# Altium integrated library TI Power Management Switching Regulator Charge Pump (Inductorless).IntLib: 239 symbols (part 10 of 14)
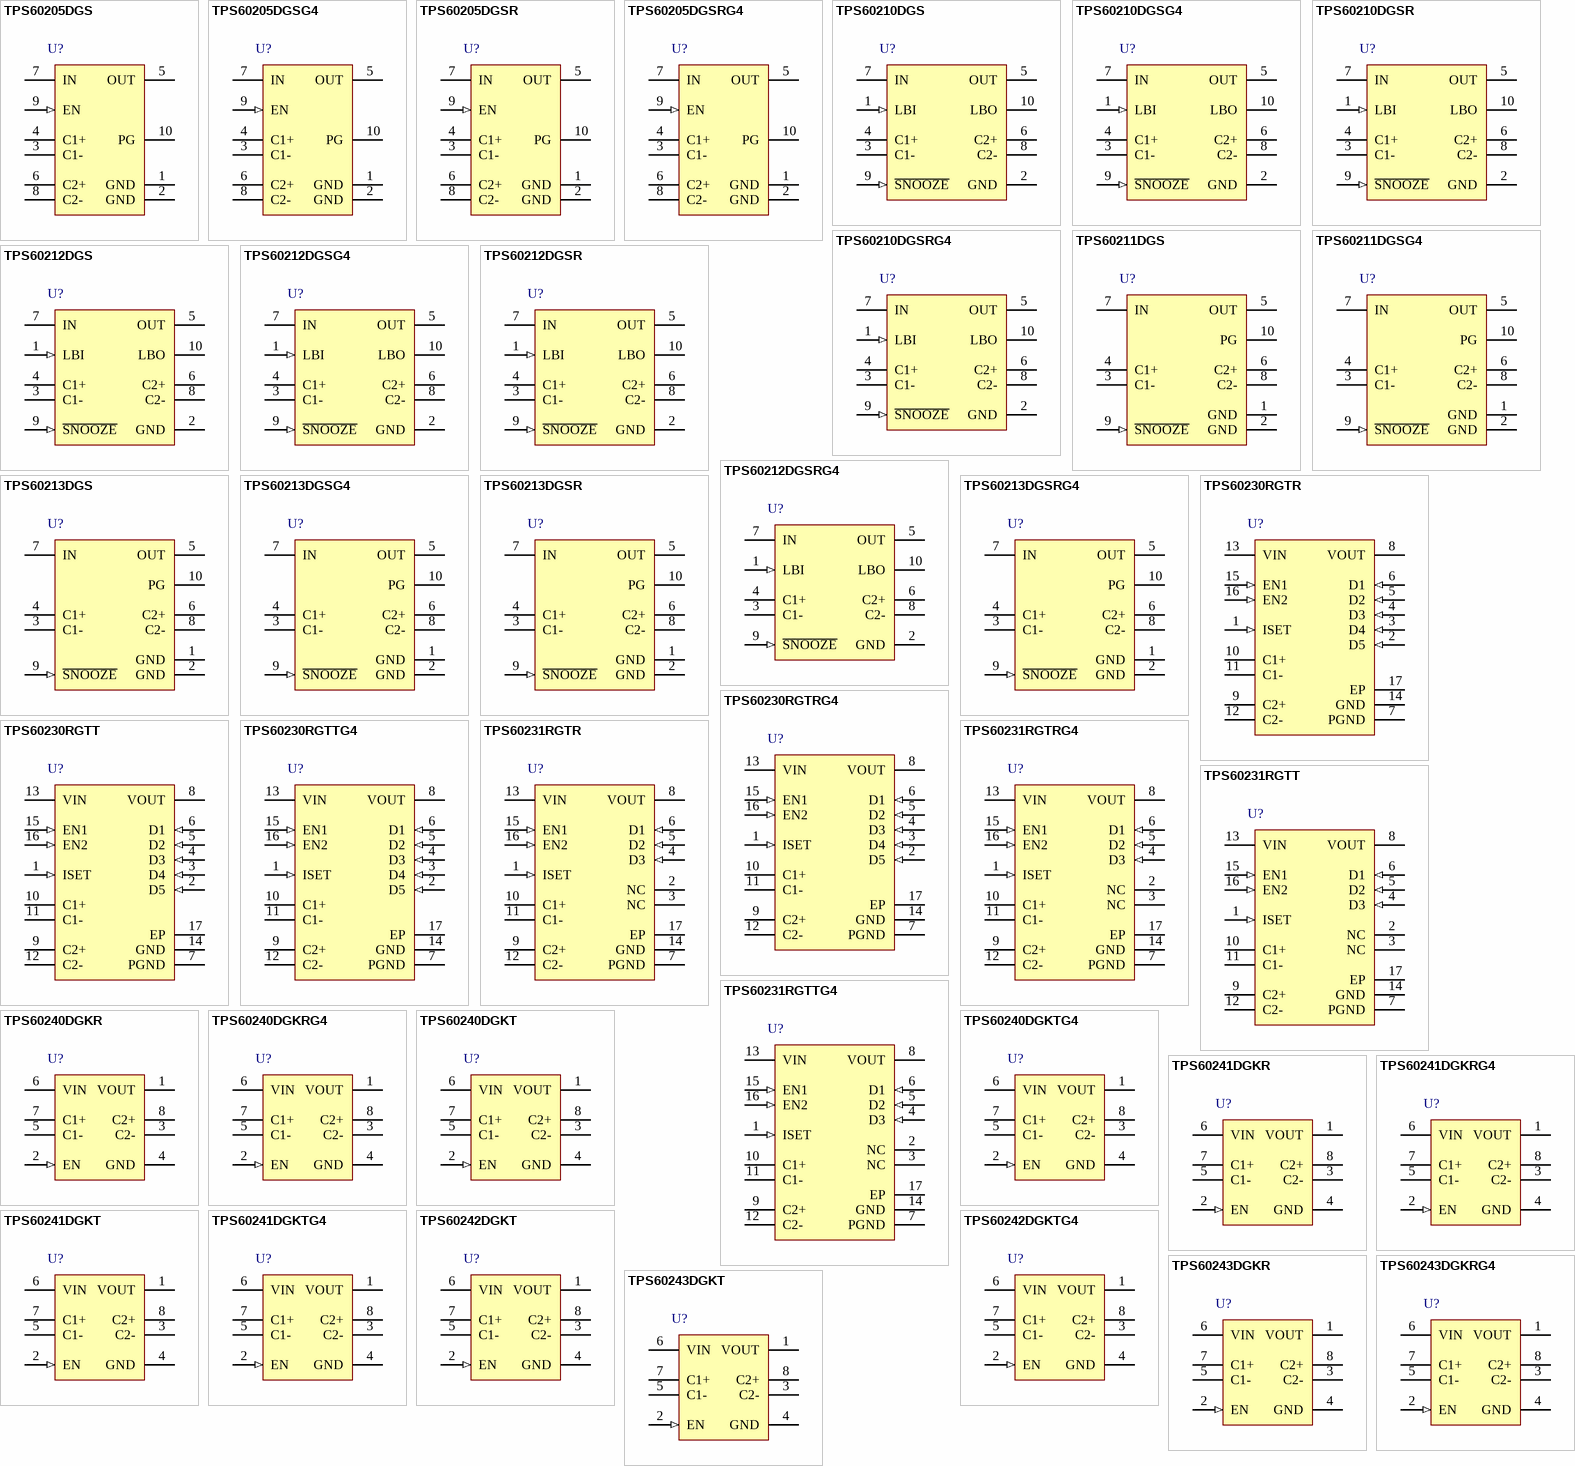
[diagram p16: symbols TPS60205DGS to TPS60243DGKT]

## TPS60230RGTT
designator U?
5.5 V, Backlight, 125 mA, 2.7 to 6.5 V Input, -40 to 85 degC, 16-pin QFN (RGT16), Green (RoHS & no Sb/Br); Manufacturer: Texas Instruments; PartNumber: TPS60230RGTT; Iout(Max)(A): 0.125; Iq(Typ)(mA): 0.2; Preset Vout(V): 5.5; Switching Frequency(Max)(kHz): 1250; Topology: Boost; Vin(Max)(V): 6.5; Vin(Min)(V): 2.7; DatasheetVersion: SLVS516A; PackageVersion: 4203495/H; PackageReference: RGT16-1450X1450TP; PackageDescription: 16-Pin Plastic Flat Pack, Body 3 x 3 mm, Pitch 0.5 mm; Supplier 1: Digi-Key; Supplier Part Number 1: 296-17136-2-ND; Supplier 2: Digi-Key; Supplier Part Number 2: 296-17136-1-ND; Supplier 3: Digi-Key; Supplier Part Number 3: 296-17136-6-ND; Supplier 4: Newark; Supplier Part Number 4: 21J9226; Supplier 5: Mouser; Supplier Part Number 5: 595-TPS60230RGTT; Eco-Plan: Green (RoHS & no Sb/Br); Mounting Technology: Surface Mount; Code_JEDEC: MO-220; ComponentLink1Description: Manufacturer URL; ComponentLink1URL: http://www.ti.com/; ComponentLink2Description: Datasheet; ComponentLink2URL: http://www.ti.com/general/docs/lit/getliterature.tsp?genericPartNumber=TPS60230&fileType=pdf; ComponentLink3Description: Package Specification; ComponentLink3URL: http://www.ti.com/litv/pdf/mpqf119g
footprint TI-RGT16-1450X1450TP_V (QFN, 16-Leads, Body 3x3mm, Pitch 0.5mm, Thermal Pad 1.45x1.45mm)
pins: 1 ISET (in) "Connect a resistor between this pin and GND to set the maximum current through the LEDs.", 2 D5 (in) "Current sink input. Connect the cathode of the white LEDs to these inputs.", 3 D4 (in) "Current sink input. Connect the cathode of the white LEDs to these inputs.", 4 D3 (in) "Current sink input. Connect the cathode of the white LEDs to these inputs.", 5 D2 (in) "Current sink input. Connect the cathode of the white LEDs to these inputs.", 6 D1 (in) "Current sink input. Connect the cathode of the white LEDs to these inputs.", 7 PGND (power) "Power ground, connect with analog ground (GND).", 8 VOUT (power) "Connect the output capacitor and the anode of the LEDs to this pin.", 9 C2+ "Connect to the flying capacitor C2", 10 C1+ "Connect to the flying capacitor C1", 11 C1- "Connect to the flying capacitor C1", 12 C2- "Connect to the flying capacitor C2", 13 VIN (power) "Supply voltage input.", 14 GND (power) "Analog ground", 15 EN1 (in) "Enable input. A logic high enables the converter, logic low forces the device into shutdown mode reducing the supply current to less than 1 uA if EN2 is tied to GND.", 16 EN2 (in) "An applied PWM signal reduces the LED current as a function of the duty cycle of the PWM signal. EN1 and EN2 can be tied together for PWM dimming between 0 mA and the maximum set with ISET. EN1 and EN2 can also be used for (See Datasheet)", 17 EP (power) "Connect with PGND and GND"

## TPS60230RGTTG4
designator U?
5.5 V, Backlight, 125 mA, 2.7 to 6.5 V Input, -40 to 85 degC, 16-pin QFN (RGT16), Green (RoHS & no Sb/Br); Manufacturer: Texas Instruments; PartNumber: TPS60230RGTTG4; Iout(Max)(A): 0.125; Iq(Typ)(mA): 0.2; Preset Vout(V): 5.5; Switching Frequency(Max)(kHz): 1250; Topology: Boost; Vin(Max)(V): 6.5; Vin(Min)(V): 2.7; DatasheetVersion: SLVS516A; PackageVersion: 4203495/H; PackageReference: RGT16-1450X1450TP; PackageDescription: 16-Pin Plastic Flat Pack, Body 3 x 3 mm, Pitch 0.5 mm; Supplier 1: Digi-Key; Supplier Part Number 1: TPS60230RGTTG4-ND; Supplier 2: Farnell; Supplier Part Number 2: 1226309; Supplier 3: Mouser; Supplier Part Number 3: 595-TPS60230RGTTG4; Eco-Plan: Green (RoHS & no Sb/Br); Mounting Technology: Surface Mount; Code_JEDEC: MO-220; ComponentLink1Description: Manufacturer URL; ComponentLink1URL: http://www.ti.com/; ComponentLink2Description: Datasheet; ComponentLink2URL: http://www.ti.com/general/docs/lit/getliterature.tsp?genericPartNumber=TPS60230&fileType=pdf; ComponentLink3Description: Package Specification; ComponentLink3URL: http://www.ti.com/litv/pdf/mpqf119g
footprint TI-RGT16-1450X1450TP_V (QFN, 16-Leads, Body 3x3mm, Pitch 0.5mm, Thermal Pad 1.45x1.45mm)
pins: 1 ISET (in) "Connect a resistor between this pin and GND to set the maximum current through the LEDs.", 2 D5 (in) "Current sink input. Connect the cathode of the white LEDs to these inputs.", 3 D4 (in) "Current sink input. Connect the cathode of the white LEDs to these inputs.", 4 D3 (in) "Current sink input. Connect the cathode of the white LEDs to these inputs.", 5 D2 (in) "Current sink input. Connect the cathode of the white LEDs to these inputs.", 6 D1 (in) "Current sink input. Connect the cathode of the white LEDs to these inputs.", 7 PGND (power) "Power ground, connect with analog ground (GND).", 8 VOUT (power) "Connect the output capacitor and the anode of the LEDs to this pin.", 9 C2+ "Connect to the flying capacitor C2", 10 C1+ "Connect to the flying capacitor C1", 11 C1- "Connect to the flying capacitor C1", 12 C2- "Connect to the flying capacitor C2", 13 VIN (power) "Supply voltage input.", 14 GND (power) "Analog ground", 15 EN1 (in) "Enable input. A logic high enables the converter, logic low forces the device into shutdown mode reducing the supply current to less than 1 uA if EN2 is tied to GND.", 16 EN2 (in) "An applied PWM signal reduces the LED current as a function of the duty cycle of the PWM signal. EN1 and EN2 can be tied together for PWM dimming between 0 mA and the maximum set with ISET. EN1 and EN2 can also be used for (See Datasheet)", 17 EP (power) "Connect with PGND and GND"

## TPS60231RGTR
designator U?
5.5 V, Step-Up Charge Pump Regulator, 75 mA, 2.7 to 6.5 V Input, -40 to 85 degC, 16-pin QFN (RGT16), Green (RoHS & no Sb/Br); Manufacturer: Texas Instruments; PartNumber: TPS60231RGTR; Efficiency(Typ)(%): 90; Iout(Max)(A): 0.075; Iq(Typ)(mA): 0.2; Preset Vout(V): 5.5; Switching Frequency(Max)(kHz): 1250; Topology: Boost; Vin(Max)(V): 6.5; Vin(Min)(V): 2.7; DatasheetVersion: SLVS544A; PackageVersion: 4203495/H; PackageReference: RGT16-1450X1450TP; PackageDescription: 16-Pin Plastic Flat Pack, Body 3 x 3 mm, Pitch 0.5 mm; Supplier 1: Digi-Key; Supplier Part Number 1: 296-17490-2-ND; Supplier 2: Digi-Key; Supplier Part Number 2: 296-17490-1-ND; Supplier 3: Digi-Key; Supplier Part Number 3: 296-17490-6-ND; Supplier 4: Newark; Supplier Part Number 4: 65J6900; Supplier 5: Mouser; Supplier Part Number 5: 595-TPS60231RGTR; Eco-Plan: Green (RoHS & no Sb/Br); Mounting Technology: Surface Mount; Code_JEDEC: MO-220; ComponentLink1Description: Manufacturer URL; ComponentLink1URL: http://www.ti.com/; ComponentLink2Description: Datasheet; ComponentLink2URL: http://www.ti.com/general/docs/lit/getliterature.tsp?genericPartNumber=TPS60231&fileType=pdf; ComponentLink3Description: Package Specification; ComponentLink3URL: http://www.ti.com/litv/pdf/mpqf119g
footprint TI-RGT16-1450X1450TP_V (QFN, 16-Leads, Body 3x3mm, Pitch 0.5mm, Thermal Pad 1.45x1.45mm)
pins: 1 ISET (in) "Connect a resistor between this pin and GND to set the maximum current through the LEDs.", 2 NC "No internal connection.", 3 NC "No internal connection.", 4 D3 (in) "Current sink input. Connect the cathode of the white LEDs to these inputs.", 5 D2 (in) "Current sink input. Connect the cathode of the white LEDs to these inputs.", 6 D1 (in) "Current sink input. Connect the cathode of the white LEDs to these inputs.", 7 PGND (power) "Power ground.", 8 VOUT (power) "Connect the output capacitor and the anode of the LEDs to this pin.", 9 C2+ "Connect to the flying capacitor C2", 10 C1+ "Connect to the flying capacitor C1", 11 C1- "Connect to the flying capacitor C1", 12 C2- "Connect to the flying capacitor C2", 13 VIN (power) "Supply voltage input", 14 GND (power) "Analog ground", 15 EN1 (in) "Enable input. A logic high enables the converter, logic low forces the device into shutdown mode reducing the supply current to less than 1 uA if EN2 is tied to GND.", 16 EN2 (in) "An applied PWM signal reduces the LED current as a function of the duty cycle of the PWM signal. EN1 and EN2 can be tied together for PWM dimming between 0 mA and the maximum set with ISET. EN1 and EN2 can also be used for (See Datasheet)", 17 EP (power) "Connect with PGND and GND."

## TPS60231RGTRG4
designator U?
5.5 V, Step-Up Charge Pump Regulator, 75 mA, 2.7 to 6.5 V Input, -40 to 85 degC, 16-pin QFN (RGT16), Green (RoHS & no Sb/Br); Manufacturer: Texas Instruments; PartNumber: TPS60231RGTRG4; Efficiency(Typ)(%): 90; Iout(Max)(A): 0.075; Iq(Typ)(mA): 0.2; Preset Vout(V): 5.5; Switching Frequency(Max)(kHz): 1250; Topology: Boost; Vin(Max)(V): 6.5; Vin(Min)(V): 2.7; DatasheetVersion: SLVS544A; PackageVersion: 4203495/H; PackageReference: RGT16-1450X1450TP; PackageDescription: 16-Pin Plastic Flat Pack, Body 3 x 3 mm, Pitch 0.5 mm; Supplier 1: Digi-Key; Supplier Part Number 1: TPS60231RGTRG4-ND; Supplier 2: Mouser; Supplier Part Number 2: 595-TPS60231RGTRG4; Eco-Plan: Green (RoHS & no Sb/Br); Mounting Technology: Surface Mount; Code_JEDEC: MO-220; ComponentLink1Description: Manufacturer URL; ComponentLink1URL: http://www.ti.com/; ComponentLink2Description: Datasheet; ComponentLink2URL: http://www.ti.com/general/docs/lit/getliterature.tsp?genericPartNumber=TPS60231&fileType=pdf; ComponentLink3Description: Package Specification; ComponentLink3URL: http://www.ti.com/litv/pdf/mpqf119g
footprint TI-RGT16-1450X1450TP_V (QFN, 16-Leads, Body 3x3mm, Pitch 0.5mm, Thermal Pad 1.45x1.45mm)
pins: 1 ISET (in) "Connect a resistor between this pin and GND to set the maximum current through the LEDs.", 2 NC "No internal connection.", 3 NC "No internal connection.", 4 D3 (in) "Current sink input. Connect the cathode of the white LEDs to these inputs.", 5 D2 (in) "Current sink input. Connect the cathode of the white LEDs to these inputs.", 6 D1 (in) "Current sink input. Connect the cathode of the white LEDs to these inputs.", 7 PGND (power) "Power ground.", 8 VOUT (power) "Connect the output capacitor and the anode of the LEDs to this pin.", 9 C2+ "Connect to the flying capacitor C2", 10 C1+ "Connect to the flying capacitor C1", 11 C1- "Connect to the flying capacitor C1", 12 C2- "Connect to the flying capacitor C2", 13 VIN (power) "Supply voltage input", 14 GND (power) "Analog ground", 15 EN1 (in) "Enable input. A logic high enables the converter, logic low forces the device into shutdown mode reducing the supply current to less than 1 uA if EN2 is tied to GND.", 16 EN2 (in) "An applied PWM signal reduces the LED current as a function of the duty cycle of the PWM signal. EN1 and EN2 can be tied together for PWM dimming between 0 mA and the maximum set with ISET. EN1 and EN2 can also be used for (See Datasheet)", 17 EP (power) "Connect with PGND and GND."

## TPS60231RGTT
designator U?
5.5 V, Step-Up Charge Pump Regulator, 75 mA, 2.7 to 6.5 V Input, -40 to 85 degC, 16-pin QFN (RGT16), Green (RoHS & no Sb/Br); Manufacturer: Texas Instruments; PartNumber: TPS60231RGTT; Efficiency(Typ)(%): 90; Iout(Max)(A): 0.075; Iq(Typ)(mA): 0.2; Preset Vout(V): 5.5; Switching Frequency(Max)(kHz): 1250; Topology: Boost; Vin(Max)(V): 6.5; Vin(Min)(V): 2.7; DatasheetVersion: SLVS544A; PackageVersion: 4203495/H; PackageReference: RGT16-1450X1450TP; PackageDescription: 16-Pin Plastic Flat Pack, Body 3 x 3 mm, Pitch 0.5 mm; Supplier 1: Digi-Key; Supplier Part Number 1: TPS60231RGTT-ND; Supplier 2: Newark; Supplier Part Number 2: 65J6901; Supplier 3: Mouser; Supplier Part Number 3: 595-TPS60231RGTT; Eco-Plan: Green (RoHS & no Sb/Br); Mounting Technology: Surface Mount; Code_JEDEC: MO-220; ComponentLink1Description: Manufacturer URL; ComponentLink1URL: http://www.ti.com/; ComponentLink2Description: Datasheet; ComponentLink2URL: http://www.ti.com/general/docs/lit/getliterature.tsp?genericPartNumber=TPS60231&fileType=pdf; ComponentLink3Description: Package Specification; ComponentLink3URL: http://www.ti.com/litv/pdf/mpqf119g
footprint TI-RGT16-1450X1450TP_V (QFN, 16-Leads, Body 3x3mm, Pitch 0.5mm, Thermal Pad 1.45x1.45mm)
pins: 1 ISET (in) "Connect a resistor between this pin and GND to set the maximum current through the LEDs.", 2 NC "No internal connection.", 3 NC "No internal connection.", 4 D3 (in) "Current sink input. Connect the cathode of the white LEDs to these inputs.", 5 D2 (in) "Current sink input. Connect the cathode of the white LEDs to these inputs.", 6 D1 (in) "Current sink input. Connect the cathode of the white LEDs to these inputs.", 7 PGND (power) "Power ground.", 8 VOUT (power) "Connect the output capacitor and the anode of the LEDs to this pin.", 9 C2+ "Connect to the flying capacitor C2", 10 C1+ "Connect to the flying capacitor C1", 11 C1- "Connect to the flying capacitor C1", 12 C2- "Connect to the flying capacitor C2", 13 VIN (power) "Supply voltage input", 14 GND (power) "Analog ground", 15 EN1 (in) "Enable input. A logic high enables the converter, logic low forces the device into shutdown mode reducing the supply current to less than 1 uA if EN2 is tied to GND.", 16 EN2 (in) "An applied PWM signal reduces the LED current as a function of the duty cycle of the PWM signal. EN1 and EN2 can be tied together for PWM dimming between 0 mA and the maximum set with ISET. EN1 and EN2 can also be used for (See Datasheet)", 17 EP (power) "Connect with PGND and GND."

## TPS60231RGTTG4
designator U?
5.5 V, Step-Up Charge Pump Regulator, 75 mA, 2.7 to 6.5 V Input, -40 to 85 degC, 16-pin QFN (RGT16), Green (RoHS & no Sb/Br); Manufacturer: Texas Instruments; PartNumber: TPS60231RGTTG4; Efficiency(Typ)(%): 90; Iout(Max)(A): 0.075; Iq(Typ)(mA): 0.2; Preset Vout(V): 5.5; Switching Frequency(Max)(kHz): 1250; Topology: Boost; Vin(Max)(V): 6.5; Vin(Min)(V): 2.7; DatasheetVersion: SLVS544A; PackageVersion: 4203495/H; PackageReference: RGT16-1450X1450TP; PackageDescription: 16-Pin Plastic Flat Pack, Body 3 x 3 mm, Pitch 0.5 mm; Supplier 1: Digi-Key; Supplier Part Number 1: TPS60231RGTTG4-ND; Supplier 2: Farnell; Supplier Part Number 2: 1226310RL; Supplier 3: Farnell; Supplier Part Number 3: 1226310; Supplier 4: Newark; Supplier Part Number 4: 05M1622; Supplier 5: Mouser; Supplier Part Number 5: 595-TPS60231RGTTG4; Eco-Plan: Green (RoHS & no Sb/Br); Mounting Technology: Surface Mount; Code_JEDEC: MO-220; ComponentLink1Description: Manufacturer URL; ComponentLink1URL: http://www.ti.com/; ComponentLink2Description: Datasheet; ComponentLink2URL: http://www.ti.com/general/docs/lit/getliterature.tsp?genericPartNumber=TPS60231&fileType=pdf; ComponentLink3Description: Package Specification; ComponentLink3URL: http://www.ti.com/litv/pdf/mpqf119g
footprint TI-RGT16-1450X1450TP_V (QFN, 16-Leads, Body 3x3mm, Pitch 0.5mm, Thermal Pad 1.45x1.45mm)
pins: 1 ISET (in) "Connect a resistor between this pin and GND to set the maximum current through the LEDs.", 2 NC "No internal connection.", 3 NC "No internal connection.", 4 D3 (in) "Current sink input. Connect the cathode of the white LEDs to these inputs.", 5 D2 (in) "Current sink input. Connect the cathode of the white LEDs to these inputs.", 6 D1 (in) "Current sink input. Connect the cathode of the white LEDs to these inputs.", 7 PGND (power) "Power ground.", 8 VOUT (power) "Connect the output capacitor and the anode of the LEDs to this pin.", 9 C2+ "Connect to the flying capacitor C2", 10 C1+ "Connect to the flying capacitor C1", 11 C1- "Connect to the flying capacitor C1", 12 C2- "Connect to the flying capacitor C2", 13 VIN (power) "Supply voltage input", 14 GND (power) "Analog ground", 15 EN1 (in) "Enable input. A logic high enables the converter, logic low forces the device into shutdown mode reducing the supply current to less than 1 uA if EN2 is tied to GND.", 16 EN2 (in) "An applied PWM signal reduces the LED current as a function of the duty cycle of the PWM signal. EN1 and EN2 can be tied together for PWM dimming between 0 mA and the maximum set with ISET. EN1 and EN2 can also be used for (See Datasheet)", 17 EP (power) "Connect with PGND and GND."

## TPS60240DGKR
designator U?
3.3 V, Boost Charge Pump, 25 mA, 1.8 to 5.5 V Input with 2-Cell Alkaline / Nixx Input, -40 to 85 degC, 8-pin SOP (DGK8), Green (RoHS & no Sb/Br); Manufacturer: Texas Instruments; PartNumber: TPS60240DGKR; 2-Cell Alkaline/Nixx Input: TRUE; Efficiency(Typ)(%): 89.6; Iout(Max)(A): 0.025; Iq(Typ)(mA): 0.25; Preset Vout(V): 3.3; Switching Frequency(Max)(kHz): 220; Vin(Max)(V): 5.5; Vin(Min)(V): 1.8; Vout(Max)(V): 3.3825; Vout(Min)(V): 3.2175; DatasheetVersion: SLVS372B; PackageVersion: 4073329/E; PackageReference: DGK8; PackageDescription: 8-Pin Thin Small Outline Package 3 x 3 mm Body ,0.65 mm Pitch; Supplier 1: Digi-Key; Supplier Part Number 1: 296-12510-2-ND; Supplier 2: Digi-Key; Supplier Part Number 2: 296-12510-1-ND; Supplier 3: Digi-Key; Supplier Part Number 3: 296-12510-6-ND; Supplier 4: Newark; Supplier Part Number 4: 77C0599; Supplier 5: Mouser; Supplier Part Number 5: 595-TPS60240DGKR; Eco-Plan: Green (RoHS & no Sb/Br); Topology: Boost; Mounting Technology: Surface Mount; Code_JEDEC: MO-187; ComponentLink1Description: Manufacturer URL; ComponentLink1URL: http://www.ti.com/; ComponentLink2Description: Datasheet; ComponentLink2URL: http://www.ti.com/general/docs/lit/getliterature.tsp?genericPartNumber=TPS60240&fileType=pdf; ComponentLink3Description: Package Specification; ComponentLink3URL: http://www.ti.com/litv/pdf/mpds028d
footprint TI-DGK8_N (SOP, 8-Leads, Body 3x3mm, Pitch 0.65mm, IPC Medium Density)
footprint TI-DGK8_L (SOP, 8-Leads, Body 3x3mm, Pitch 0.65mm, IPC High Density)
footprint TI-DGK8_M (SOP, 8-Leads, Body 3x3mm, Pitch 0.65mm, IPC Low Density)
pins: 1 VOUT (power) "Regulated power output. Bypass VOUT to GND with a 1-uF external filter capacitor (CO). TPS60241: regulated 5-V output, TPS60240: regulated 3.3-V output, TPS60242: regulated 2.7-V output, TPS60243: regulated 3-V output", 2 EN (in) "Enable terminal, active high", 3 C2- "Negative terminal of the flying capacitor C2", 4 GND (power) "Ground", 5 C1- "Negative terminal of the flying capacitor C1", 6 VIN (power) "Supply voltage input TPS60241: 2.7 V to 5.5 V, TPS60240/2/3: 1.8 V to 5.5 V. Bypass VIN to GND with a 1-uF external capacitor (CI).", 7 C1+ "Positive terminal of the flying capacitor C1", 8 C2+ "Positive terminal of the flying capacitor C2"

## TPS60240DGKRG4
designator U?
3.3 V, Boost Charge Pump, 25 mA, 1.8 to 5.5 V Input with 2-Cell Alkaline / Nixx Input, -40 to 85 degC, 8-pin SOP (DGK8), Green (RoHS & no Sb/Br); Manufacturer: Texas Instruments; PartNumber: TPS60240DGKRG4; 2-Cell Alkaline/Nixx Input: TRUE; Efficiency(Typ)(%): 89.6; Iout(Max)(A): 0.025; Iq(Typ)(mA): 0.25; Preset Vout(V): 3.3; Switching Frequency(Max)(kHz): 220; Vin(Max)(V): 5.5; Vin(Min)(V): 1.8; Vout(Max)(V): 3.3825; Vout(Min)(V): 3.2175; DatasheetVersion: SLVS372B; PackageVersion: 4073329/E; PackageReference: DGK8; PackageDescription: 8-Pin Thin Small Outline Package 3 x 3 mm Body ,0.65 mm Pitch; Supplier 1: Digi-Key; Supplier Part Number 1: TPS60240DGKRG4-ND; Supplier 2: Newark; Supplier Part Number 2: 60M1799; Supplier 3: Mouser; Supplier Part Number 3: 595-TPS60240DGKRG4; Eco-Plan: Green (RoHS & no Sb/Br); Topology: Boost; Mounting Technology: Surface Mount; Code_JEDEC: MO-187; ComponentLink1Description: Manufacturer URL; ComponentLink1URL: http://www.ti.com/; ComponentLink2Description: Datasheet; ComponentLink2URL: http://www.ti.com/general/docs/lit/getliterature.tsp?genericPartNumber=TPS60240&fileType=pdf; ComponentLink3Description: Package Specification; ComponentLink3URL: http://www.ti.com/litv/pdf/mpds028d
footprint TI-DGK8_N (SOP, 8-Leads, Body 3x3mm, Pitch 0.65mm, IPC Medium Density)
footprint TI-DGK8_L (SOP, 8-Leads, Body 3x3mm, Pitch 0.65mm, IPC High Density)
footprint TI-DGK8_M (SOP, 8-Leads, Body 3x3mm, Pitch 0.65mm, IPC Low Density)
pins: 1 VOUT (power) "Regulated power output. Bypass VOUT to GND with a 1-uF external filter capacitor (CO). TPS60241: regulated 5-V output, TPS60240: regulated 3.3-V output, TPS60242: regulated 2.7-V output, TPS60243: regulated 3-V output", 2 EN (in) "Enable terminal, active high", 3 C2- "Negative terminal of the flying capacitor C2", 4 GND (power) "Ground", 5 C1- "Negative terminal of the flying capacitor C1", 6 VIN (power) "Supply voltage input TPS60241: 2.7 V to 5.5 V, TPS60240/2/3: 1.8 V to 5.5 V. Bypass VIN to GND with a 1-uF external capacitor (CI).", 7 C1+ "Positive terminal of the flying capacitor C1", 8 C2+ "Positive terminal of the flying capacitor C2"

## TPS60240DGKT
designator U?
3.3 V, Boost Charge Pump, 25 mA, 1.8 to 5.5 V Input with 2-Cell Alkaline / Nixx Input, -40 to 85 degC, 8-pin SOP (DGK8), Green (RoHS & no Sb/Br); Manufacturer: Texas Instruments; PartNumber: TPS60240DGKT; 2-Cell Alkaline/Nixx Input: TRUE; Efficiency(Typ)(%): 89.6; Iout(Max)(A): 0.025; Iq(Typ)(mA): 0.25; Preset Vout(V): 3.3; Switching Frequency(Max)(kHz): 220; Vin(Max)(V): 5.5; Vin(Min)(V): 1.8; Vout(Max)(V): 3.3825; Vout(Min)(V): 3.2175; DatasheetVersion: SLVS372B; PackageVersion: 4073329/E; PackageReference: DGK8; PackageDescription: 8-Pin Thin Small Outline Package 3 x 3 mm Body ,0.65 mm Pitch; Supplier 1: Digi-Key; Supplier Part Number 1: 296-32496-2-ND; Supplier 2: Digi-Key; Supplier Part Number 2: 296-32496-1-ND; Supplier 3: Digi-Key; Supplier Part Number 3: 296-32496-6-ND; Supplier 4: Mouser; Supplier Part Number 4: 595-TPS60240DGKT; Eco-Plan: Green (RoHS & no Sb/Br); Topology: Boost; Mounting Technology: Surface Mount; Code_JEDEC: MO-187; ComponentLink1Description: Manufacturer URL; ComponentLink1URL: http://www.ti.com/; ComponentLink2Description: Datasheet; ComponentLink2URL: http://www.ti.com/general/docs/lit/getliterature.tsp?genericPartNumber=TPS60240&fileType=pdf; ComponentLink3Description: Package Specification; ComponentLink3URL: http://www.ti.com/litv/pdf/mpds028d
footprint TI-DGK8_N (SOP, 8-Leads, Body 3x3mm, Pitch 0.65mm, IPC Medium Density)
footprint TI-DGK8_L (SOP, 8-Leads, Body 3x3mm, Pitch 0.65mm, IPC High Density)
footprint TI-DGK8_M (SOP, 8-Leads, Body 3x3mm, Pitch 0.65mm, IPC Low Density)
pins: 1 VOUT (power) "Regulated power output. Bypass VOUT to GND with a 1-uF external filter capacitor (CO). TPS60241: regulated 5-V output, TPS60240: regulated 3.3-V output, TPS60242: regulated 2.7-V output, TPS60243: regulated 3-V output", 2 EN (in) "Enable terminal, active high", 3 C2- "Negative terminal of the flying capacitor C2", 4 GND (power) "Ground", 5 C1- "Negative terminal of the flying capacitor C1", 6 VIN (power) "Supply voltage input TPS60241: 2.7 V to 5.5 V, TPS60240/2/3: 1.8 V to 5.5 V. Bypass VIN to GND with a 1-uF external capacitor (CI).", 7 C1+ "Positive terminal of the flying capacitor C1", 8 C2+ "Positive terminal of the flying capacitor C2"

## TPS60240DGKTG4
designator U?
3.3 V, Boost Charge Pump, 25 mA, 1.8 to 5.5 V Input with 2-Cell Alkaline / Nixx Input, -40 to 85 degC, 8-pin SOP (DGK8), Green (RoHS & no Sb/Br); Manufacturer: Texas Instruments; PartNumber: TPS60240DGKTG4; 2-Cell Alkaline/Nixx Input: TRUE; Efficiency(Typ)(%): 89.6; Iout(Max)(A): 0.025; Iq(Typ)(mA): 0.25; Preset Vout(V): 3.3; Switching Frequency(Max)(kHz): 220; Vin(Max)(V): 5.5; Vin(Min)(V): 1.8; Vout(Max)(V): 3.3825; Vout(Min)(V): 3.2175; DatasheetVersion: SLVS372B; PackageVersion: 4073329/E; PackageReference: DGK8; PackageDescription: 8-Pin Thin Small Outline Package 3 x 3 mm Body ,0.65 mm Pitch; Supplier 1: Digi-Key; Supplier Part Number 1: TPS60240DGKTG4-ND; Supplier 2: Mouser; Supplier Part Number 2: 595-TPS60240DGKTG4; Eco-Plan: Green (RoHS & no Sb/Br); Topology: Boost; Mounting Technology: Surface Mount; Code_JEDEC: MO-187; ComponentLink1Description: Manufacturer URL; ComponentLink1URL: http://www.ti.com/; ComponentLink2Description: Datasheet; ComponentLink2URL: http://www.ti.com/general/docs/lit/getliterature.tsp?genericPartNumber=TPS60240&fileType=pdf; ComponentLink3Description: Package Specification; ComponentLink3URL: http://www.ti.com/litv/pdf/mpds028d
footprint TI-DGK8_N (SOP, 8-Leads, Body 3x3mm, Pitch 0.65mm, IPC Medium Density)
footprint TI-DGK8_L (SOP, 8-Leads, Body 3x3mm, Pitch 0.65mm, IPC High Density)
footprint TI-DGK8_M (SOP, 8-Leads, Body 3x3mm, Pitch 0.65mm, IPC Low Density)
pins: 1 VOUT (power) "Regulated power output. Bypass VOUT to GND with a 1-uF external filter capacitor (CO). TPS60241: regulated 5-V output, TPS60240: regulated 3.3-V output, TPS60242: regulated 2.7-V output, TPS60243: regulated 3-V output", 2 EN (in) "Enable terminal, active high", 3 C2- "Negative terminal of the flying capacitor C2", 4 GND (power) "Ground", 5 C1- "Negative terminal of the flying capacitor C1", 6 VIN (power) "Supply voltage input TPS60241: 2.7 V to 5.5 V, TPS60240/2/3: 1.8 V to 5.5 V. Bypass VIN to GND with a 1-uF external capacitor (CI).", 7 C1+ "Positive terminal of the flying capacitor C1", 8 C2+ "Positive terminal of the flying capacitor C2"

## TPS60241DGKR
designator U?
5 V, Boost Charge Pump, 25 mA, 2.7 to 5.5 V Input with 2-Cell Alkaline / Nixx Input, -40 to 85 degC, 8-pin SOP (DGK8), Green (RoHS & no Sb/Br); Manufacturer: Texas Instruments; PartNumber: TPS60241DGKR; 2-Cell Alkaline/Nixx Input: TRUE; Efficiency(Typ)(%): 90.8; Iout(Max)(A): 0.025; Iq(Typ)(mA): 0.25; Preset Vout(V): 5; Switching Frequency(Max)(kHz): 220; Vin(Max)(V): 5.5; Vin(Min)(V): 2.7; Vout(Max)(V): 5.125; Vout(Min)(V): 4.875; DatasheetVersion: SLVS372B; PackageVersion: 4073329/E; PackageReference: DGK8; PackageDescription: 8-Pin Thin Small Outline Package 3 x 3 mm Body ,0.65 mm Pitch; Supplier 1: Digi-Key; Supplier Part Number 1: 296-12241-2-ND; Supplier 2: Digi-Key; Supplier Part Number 2: 296-12241-1-ND; Supplier 3: Digi-Key; Supplier Part Number 3: 296-12241-6-ND; Supplier 4: Newark; Supplier Part Number 4: 77C0601; Supplier 5: Mouser; Supplier Part Number 5: 595-TPS60241DGKR; Eco-Plan: Green (RoHS & no Sb/Br); Topology: Boost; Mounting Technology: Surface Mount; Code_JEDEC: MO-187; ComponentLink1Description: Manufacturer URL; ComponentLink1URL: http://www.ti.com/; ComponentLink2Description: Datasheet; ComponentLink2URL: http://www.ti.com/general/docs/lit/getliterature.tsp?genericPartNumber=TPS60241&fileType=pdf; ComponentLink3Description: Package Specification; ComponentLink3URL: http://www.ti.com/litv/pdf/mpds028d
footprint TI-DGK8_N (SOP, 8-Leads, Body 3x3mm, Pitch 0.65mm, IPC Medium Density)
footprint TI-DGK8_L (SOP, 8-Leads, Body 3x3mm, Pitch 0.65mm, IPC High Density)
footprint TI-DGK8_M (SOP, 8-Leads, Body 3x3mm, Pitch 0.65mm, IPC Low Density)
pins: 1 VOUT (power) "Regulated power output. Bypass VOUT to GND with a 1-uF external filter capacitor (CO). TPS60241: regulated 5-V output, TPS60240: regulated 3.3-V output, TPS60242: regulated 2.7-V output, TPS60243: regulated 3-V output", 2 EN (in) "Enable terminal, active high", 3 C2- "Negative terminal of the flying capacitor C2", 4 GND (power) "Ground", 5 C1- "Negative terminal of the flying capacitor C1", 6 VIN (power) "Supply voltage input TPS60241: 2.7 V to 5.5 V, TPS60240/2/3: 1.8 V to 5.5 V. Bypass VIN to GND with a 1-uF external capacitor (CI).", 7 C1+ "Positive terminal of the flying capacitor C1", 8 C2+ "Positive terminal of the flying capacitor C2"

## TPS60241DGKRG4
designator U?
5 V, Boost Charge Pump, 25 mA, 2.7 to 5.5 V Input with 2-Cell Alkaline / Nixx Input, -40 to 85 degC, 8-pin SOP (DGK8), Green (RoHS & no Sb/Br); Manufacturer: Texas Instruments; PartNumber: TPS60241DGKRG4; 2-Cell Alkaline/Nixx Input: TRUE; Efficiency(Typ)(%): 90.8; Iout(Max)(A): 0.025; Iq(Typ)(mA): 0.25; Preset Vout(V): 5; Switching Frequency(Max)(kHz): 220; Vin(Max)(V): 5.5; Vin(Min)(V): 2.7; Vout(Max)(V): 5.125; Vout(Min)(V): 4.875; DatasheetVersion: SLVS372B; PackageVersion: 4073329/E; PackageReference: DGK8; PackageDescription: 8-Pin Thin Small Outline Package 3 x 3 mm Body ,0.65 mm Pitch; Supplier 1: Digi-Key; Supplier Part Number 1: TPS60241DGKRG4-ND; Supplier 2: Newark; Supplier Part Number 2: 80K3406; Supplier 3: Mouser; Supplier Part Number 3: 595-TPS60241DGKRG4; Eco-Plan: Green (RoHS & no Sb/Br); Topology: Boost; Mounting Technology: Surface Mount; Code_JEDEC: MO-187; ComponentLink1Description: Manufacturer URL; ComponentLink1URL: http://www.ti.com/; ComponentLink2Description: Datasheet; ComponentLink2URL: http://www.ti.com/general/docs/lit/getliterature.tsp?genericPartNumber=TPS60241&fileType=pdf; ComponentLink3Description: Package Specification; ComponentLink3URL: http://www.ti.com/litv/pdf/mpds028d
footprint TI-DGK8_N (SOP, 8-Leads, Body 3x3mm, Pitch 0.65mm, IPC Medium Density)
footprint TI-DGK8_L (SOP, 8-Leads, Body 3x3mm, Pitch 0.65mm, IPC High Density)
footprint TI-DGK8_M (SOP, 8-Leads, Body 3x3mm, Pitch 0.65mm, IPC Low Density)
pins: 1 VOUT (power) "Regulated power output. Bypass VOUT to GND with a 1-uF external filter capacitor (CO). TPS60241: regulated 5-V output, TPS60240: regulated 3.3-V output, TPS60242: regulated 2.7-V output, TPS60243: regulated 3-V output", 2 EN (in) "Enable terminal, active high", 3 C2- "Negative terminal of the flying capacitor C2", 4 GND (power) "Ground", 5 C1- "Negative terminal of the flying capacitor C1", 6 VIN (power) "Supply voltage input TPS60241: 2.7 V to 5.5 V, TPS60240/2/3: 1.8 V to 5.5 V. Bypass VIN to GND with a 1-uF external capacitor (CI).", 7 C1+ "Positive terminal of the flying capacitor C1", 8 C2+ "Positive terminal of the flying capacitor C2"

## TPS60241DGKT
designator U?
5 V, Boost Charge Pump, 25 mA, 2.7 to 5.5 V Input with 2-Cell Alkaline / Nixx Input, -40 to 85 degC, 8-pin SOP (DGK8), Green (RoHS & no Sb/Br); Manufacturer: Texas Instruments; PartNumber: TPS60241DGKT; 2-Cell Alkaline/Nixx Input: TRUE; Efficiency(Typ)(%): 90.8; Iout(Max)(A): 0.025; Iq(Typ)(mA): 0.25; Preset Vout(V): 5; Switching Frequency(Max)(kHz): 220; Vin(Max)(V): 5.5; Vin(Min)(V): 2.7; Vout(Max)(V): 5.125; Vout(Min)(V): 4.875; DatasheetVersion: SLVS372B; PackageVersion: 4073329/E; PackageReference: DGK8; PackageDescription: 8-Pin Thin Small Outline Package 3 x 3 mm Body ,0.65 mm Pitch; Supplier 1: Digi-Key; Supplier Part Number 1: 296-27755-2-ND; Supplier 2: Digi-Key; Supplier Part Number 2: 296-27755-1-ND; Supplier 3: Digi-Key; Supplier Part Number 3: 296-27755-6-ND; Supplier 4: Farnell; Supplier Part Number 4: 1461058; Supplier 5: Farnell; Supplier Part Number 5: 1461058RL; Supplier 6: Newark; Supplier Part Number 6: 62M0733; Supplier 7: Newark; Supplier Part Number 7: 77C0602; Supplier 8: Mouser; Supplier Part Number 8: 595-TPS60241DGKT; Eco-Plan: Green (RoHS & no Sb/Br); Topology: Boost; Mounting Technology: Surface Mount; Code_JEDEC: MO-187; ComponentLink1Description: Manufacturer URL; ComponentLink1URL: http://www.ti.com/; ComponentLink2Description: Datasheet; ComponentLink2URL: http://www.ti.com/general/docs/lit/getliterature.tsp?genericPartNumber=TPS60241&fileType=pdf; ComponentLink3Description: Package Specification; ComponentLink3URL: http://www.ti.com/litv/pdf/mpds028d
footprint TI-DGK8_N (SOP, 8-Leads, Body 3x3mm, Pitch 0.65mm, IPC Medium Density)
footprint TI-DGK8_L (SOP, 8-Leads, Body 3x3mm, Pitch 0.65mm, IPC High Density)
footprint TI-DGK8_M (SOP, 8-Leads, Body 3x3mm, Pitch 0.65mm, IPC Low Density)
pins: 1 VOUT (power) "Regulated power output. Bypass VOUT to GND with a 1-uF external filter capacitor (CO). TPS60241: regulated 5-V output, TPS60240: regulated 3.3-V output, TPS60242: regulated 2.7-V output, TPS60243: regulated 3-V output", 2 EN (in) "Enable terminal, active high", 3 C2- "Negative terminal of the flying capacitor C2", 4 GND (power) "Ground", 5 C1- "Negative terminal of the flying capacitor C1", 6 VIN (power) "Supply voltage input TPS60241: 2.7 V to 5.5 V, TPS60240/2/3: 1.8 V to 5.5 V. Bypass VIN to GND with a 1-uF external capacitor (CI).", 7 C1+ "Positive terminal of the flying capacitor C1", 8 C2+ "Positive terminal of the flying capacitor C2"

## TPS60241DGKTG4
designator U?
5 V, Boost Charge Pump, 25 mA, 2.7 to 5.5 V Input with 2-Cell Alkaline / Nixx Input, -40 to 85 degC, 8-pin SOP (DGK8), Green (RoHS & no Sb/Br); Manufacturer: Texas Instruments; PartNumber: TPS60241DGKTG4; 2-Cell Alkaline/Nixx Input: TRUE; Efficiency(Typ)(%): 90.8; Iout(Max)(A): 0.025; Iq(Typ)(mA): 0.25; Preset Vout(V): 5; Switching Frequency(Max)(kHz): 220; Vin(Max)(V): 5.5; Vin(Min)(V): 2.7; Vout(Max)(V): 5.125; Vout(Min)(V): 4.875; DatasheetVersion: SLVS372B; PackageVersion: 4073329/E; PackageReference: DGK8; PackageDescription: 8-Pin Thin Small Outline Package 3 x 3 mm Body ,0.65 mm Pitch; Supplier 1: Digi-Key; Supplier Part Number 1: TPS60241DGKTG4-ND; Supplier 2: Newark; Supplier Part Number 2: 70K5746; Supplier 3: Mouser; Supplier Part Number 3: 595-TPS60241DGKTG4; Eco-Plan: Green (RoHS & no Sb/Br); Topology: Boost; Mounting Technology: Surface Mount; Code_JEDEC: MO-187; ComponentLink1Description: Manufacturer URL; ComponentLink1URL: http://www.ti.com/; ComponentLink2Description: Datasheet; ComponentLink2URL: http://www.ti.com/general/docs/lit/getliterature.tsp?genericPartNumber=TPS60241&fileType=pdf; ComponentLink3Description: Package Specification; ComponentLink3URL: http://www.ti.com/litv/pdf/mpds028d
footprint TI-DGK8_N (SOP, 8-Leads, Body 3x3mm, Pitch 0.65mm, IPC Medium Density)
footprint TI-DGK8_L (SOP, 8-Leads, Body 3x3mm, Pitch 0.65mm, IPC High Density)
footprint TI-DGK8_M (SOP, 8-Leads, Body 3x3mm, Pitch 0.65mm, IPC Low Density)
pins: 1 VOUT (power) "Regulated power output. Bypass VOUT to GND with a 1-uF external filter capacitor (CO). TPS60241: regulated 5-V output, TPS60240: regulated 3.3-V output, TPS60242: regulated 2.7-V output, TPS60243: regulated 3-V output", 2 EN (in) "Enable terminal, active high", 3 C2- "Negative terminal of the flying capacitor C2", 4 GND (power) "Ground", 5 C1- "Negative terminal of the flying capacitor C1", 6 VIN (power) "Supply voltage input TPS60241: 2.7 V to 5.5 V, TPS60240/2/3: 1.8 V to 5.5 V. Bypass VIN to GND with a 1-uF external capacitor (CI).", 7 C1+ "Positive terminal of the flying capacitor C1", 8 C2+ "Positive terminal of the flying capacitor C2"

## TPS60242DGKT
designator U?
2.7 V, Boost Charge Pump, 25 mA, 1.8 to 5.5 V Input with 2-Cell Alkaline / Nixx Input, -40 to 85 degC, 8-pin SOP (DGK8), Green (RoHS & no Sb/Br); Manufacturer: Texas Instruments; PartNumber: TPS60242DGKT; 2-Cell Alkaline/Nixx Input: TRUE; Efficiency(Typ)(%): 90; Iout(Max)(A): 0.025; Iq(Typ)(mA): 0.25; Preset Vout(V): 2.7; Switching Frequency(Max)(kHz): 220; Vin(Max)(V): 5.5; Vin(Min)(V): 1.8; Vout(Max)(V): 2.7675; Vout(Min)(V): 2.6325; DatasheetVersion: SLVS372B; PackageVersion: 4073329/E; PackageReference: DGK8; PackageDescription: 8-Pin Thin Small Outline Package 3 x 3 mm Body ,0.65 mm Pitch; Supplier 1: Digi-Key; Supplier Part Number 1: 296-12511-2-ND; Supplier 2: Digi-Key; Supplier Part Number 2: 296-12511-1-ND; Supplier 3: Mouser; Supplier Part Number 3: 595-TPS60242DGKT; Eco-Plan: Green (RoHS & no Sb/Br); Topology: Boost; Mounting Technology: Surface Mount; Code_JEDEC: MO-187; ComponentLink1Description: Manufacturer URL; ComponentLink1URL: http://www.ti.com/; ComponentLink2Description: Datasheet; ComponentLink2URL: http://www.ti.com/general/docs/lit/getliterature.tsp?genericPartNumber=TPS60242&fileType=pdf; ComponentLink3Description: Package Specification; ComponentLink3URL: http://www.ti.com/litv/pdf/mpds028d
footprint TI-DGK8_N (SOP, 8-Leads, Body 3x3mm, Pitch 0.65mm, IPC Medium Density)
footprint TI-DGK8_L (SOP, 8-Leads, Body 3x3mm, Pitch 0.65mm, IPC High Density)
footprint TI-DGK8_M (SOP, 8-Leads, Body 3x3mm, Pitch 0.65mm, IPC Low Density)
pins: 1 VOUT (power) "Regulated power output. Bypass VOUT to GND with a 1-uF external filter capacitor (CO). TPS60241: regulated 5-V output, TPS60240: regulated 3.3-V output, TPS60242: regulated 2.7-V output, TPS60243: regulated 3-V output", 2 EN (in) "Enable terminal, active high", 3 C2- "Negative terminal of the flying capacitor C2", 4 GND (power) "Ground", 5 C1- "Negative terminal of the flying capacitor C1", 6 VIN (power) "Supply voltage input TPS60241: 2.7 V to 5.5 V, TPS60240/2/3: 1.8 V to 5.5 V. Bypass VIN to GND with a 1-uF external capacitor (CI).", 7 C1+ "Positive terminal of the flying capacitor C1", 8 C2+ "Positive terminal of the flying capacitor C2"

## TPS60242DGKTG4
designator U?
2.7 V, Boost Charge Pump, 25 mA, 1.8 to 5.5 V Input with 2-Cell Alkaline / Nixx Input, -40 to 85 degC, 8-pin SOP (DGK8), Green (RoHS & no Sb/Br); Manufacturer: Texas Instruments; PartNumber: TPS60242DGKTG4; 2-Cell Alkaline/Nixx Input: TRUE; Efficiency(Typ)(%): 90; Iout(Max)(A): 0.025; Iq(Typ)(mA): 0.25; Preset Vout(V): 2.7; Switching Frequency(Max)(kHz): 220; Vin(Max)(V): 5.5; Vin(Min)(V): 1.8; Vout(Max)(V): 2.7675; Vout(Min)(V): 2.6325; DatasheetVersion: SLVS372B; PackageVersion: 4073329/E; PackageReference: DGK8; PackageDescription: 8-Pin Thin Small Outline Package 3 x 3 mm Body ,0.65 mm Pitch; Supplier 1: Digi-Key; Supplier Part Number 1: TPS60242DGKTG4-ND; Supplier 2: Mouser; Supplier Part Number 2: 595-TPS60242DGKTG4; Eco-Plan: Green (RoHS & no Sb/Br); Topology: Boost; Mounting Technology: Surface Mount; Code_JEDEC: MO-187; ComponentLink1Description: Manufacturer URL; ComponentLink1URL: http://www.ti.com/; ComponentLink2Description: Datasheet; ComponentLink2URL: http://www.ti.com/general/docs/lit/getliterature.tsp?genericPartNumber=TPS60242&fileType=pdf; ComponentLink3Description: Package Specification; ComponentLink3URL: http://www.ti.com/litv/pdf/mpds028d
footprint TI-DGK8_N (SOP, 8-Leads, Body 3x3mm, Pitch 0.65mm, IPC Medium Density)
footprint TI-DGK8_L (SOP, 8-Leads, Body 3x3mm, Pitch 0.65mm, IPC High Density)
footprint TI-DGK8_M (SOP, 8-Leads, Body 3x3mm, Pitch 0.65mm, IPC Low Density)
pins: 1 VOUT (power) "Regulated power output. Bypass VOUT to GND with a 1-uF external filter capacitor (CO). TPS60241: regulated 5-V output, TPS60240: regulated 3.3-V output, TPS60242: regulated 2.7-V output, TPS60243: regulated 3-V output", 2 EN (in) "Enable terminal, active high", 3 C2- "Negative terminal of the flying capacitor C2", 4 GND (power) "Ground", 5 C1- "Negative terminal of the flying capacitor C1", 6 VIN (power) "Supply voltage input TPS60241: 2.7 V to 5.5 V, TPS60240/2/3: 1.8 V to 5.5 V. Bypass VIN to GND with a 1-uF external capacitor (CI).", 7 C1+ "Positive terminal of the flying capacitor C1", 8 C2+ "Positive terminal of the flying capacitor C2"

## TPS60243DGKR
designator U?
3 V, Boost Charge Pump, 25 mA, 1.8 to 5.5 V Input with 2-Cell Alkaline / Nixx Input, -40 to 85 degC, 8-pin SOP (DGK8), Green (RoHS & no Sb/Br); Manufacturer: Texas Instruments; PartNumber: TPS60243DGKR; 2-Cell Alkaline/Nixx Input: TRUE; Efficiency(Typ)(%): 90; Iout(Max)(A): 0.025; Iq(Typ)(mA): 0.25; Preset Vout(V): 3; Switching Frequency(Max)(kHz): 220; Vin(Max)(V): 5.5; Vin(Min)(V): 1.8; Vout(Max)(V): 3.075; Vout(Min)(V): 2.925; DatasheetVersion: SLVS372B; PackageVersion: 4073329/E; PackageReference: DGK8; PackageDescription: 8-Pin Thin Small Outline Package 3 x 3 mm Body ,0.65 mm Pitch; Supplier 1: Digi-Key; Supplier Part Number 1: TPS60243DGKR-ND; Supplier 2: Mouser; Supplier Part Number 2: 595-TPS60243DGKR; Eco-Plan: Green (RoHS & no Sb/Br); Topology: Boost; Mounting Technology: Surface Mount; Code_JEDEC: MO-187; ComponentLink1Description: Manufacturer URL; ComponentLink1URL: http://www.ti.com/; ComponentLink2Description: Datasheet; ComponentLink2URL: http://www.ti.com/general/docs/lit/getliterature.tsp?genericPartNumber=TPS60243&fileType=pdf; ComponentLink3Description: Package Specification; ComponentLink3URL: http://www.ti.com/litv/pdf/mpds028d
footprint TI-DGK8_N (SOP, 8-Leads, Body 3x3mm, Pitch 0.65mm, IPC Medium Density)
footprint TI-DGK8_L (SOP, 8-Leads, Body 3x3mm, Pitch 0.65mm, IPC High Density)
footprint TI-DGK8_M (SOP, 8-Leads, Body 3x3mm, Pitch 0.65mm, IPC Low Density)
pins: 1 VOUT (power) "Regulated power output. Bypass VOUT to GND with a 1-uF external filter capacitor (CO). TPS60241: regulated 5-V output, TPS60240: regulated 3.3-V output, TPS60242: regulated 2.7-V output, TPS60243: regulated 3-V output", 2 EN (in) "Enable terminal, active high", 3 C2- "Negative terminal of the flying capacitor C2", 4 GND (power) "Ground", 5 C1- "Negative terminal of the flying capacitor C1", 6 VIN (power) "Supply voltage input TPS60241: 2.7 V to 5.5 V, TPS60240/2/3: 1.8 V to 5.5 V. Bypass VIN to GND with a 1-uF external capacitor (CI).", 7 C1+ "Positive terminal of the flying capacitor C1", 8 C2+ "Positive terminal of the flying capacitor C2"

## TPS60243DGKRG4
designator U?
3 V, Boost Charge Pump, 25 mA, 1.8 to 5.5 V Input with 2-Cell Alkaline / Nixx Input, -40 to 85 degC, 8-pin SOP (DGK8), Green (RoHS & no Sb/Br); Manufacturer: Texas Instruments; PartNumber: TPS60243DGKRG4; 2-Cell Alkaline/Nixx Input: TRUE; Efficiency(Typ)(%): 90; Iout(Max)(A): 0.025; Iq(Typ)(mA): 0.25; Preset Vout(V): 3; Switching Frequency(Max)(kHz): 220; Vin(Max)(V): 5.5; Vin(Min)(V): 1.8; Vout(Max)(V): 3.075; Vout(Min)(V): 2.925; DatasheetVersion: SLVS372B; PackageVersion: 4073329/E; PackageReference: DGK8; PackageDescription: 8-Pin Thin Small Outline Package 3 x 3 mm Body ,0.65 mm Pitch; Supplier 1: Digi-Key; Supplier Part Number 1: TPS60243DGKRG4-ND; Supplier 2: Newark; Supplier Part Number 2: 27M1085; Supplier 3: Mouser; Supplier Part Number 3: 595-TPS60243DGKRG4; Eco-Plan: Green (RoHS & no Sb/Br); Topology: Boost; Mounting Technology: Surface Mount; Code_JEDEC: MO-187; ComponentLink1Description: Manufacturer URL; ComponentLink1URL: http://www.ti.com/; ComponentLink2Description: Datasheet; ComponentLink2URL: http://www.ti.com/general/docs/lit/getliterature.tsp?genericPartNumber=TPS60243&fileType=pdf; ComponentLink3Description: Package Specification; ComponentLink3URL: http://www.ti.com/litv/pdf/mpds028d
footprint TI-DGK8_N (SOP, 8-Leads, Body 3x3mm, Pitch 0.65mm, IPC Medium Density)
footprint TI-DGK8_L (SOP, 8-Leads, Body 3x3mm, Pitch 0.65mm, IPC High Density)
footprint TI-DGK8_M (SOP, 8-Leads, Body 3x3mm, Pitch 0.65mm, IPC Low Density)
pins: 1 VOUT (power) "Regulated power output. Bypass VOUT to GND with a 1-uF external filter capacitor (CO). TPS60241: regulated 5-V output, TPS60240: regulated 3.3-V output, TPS60242: regulated 2.7-V output, TPS60243: regulated 3-V output", 2 EN (in) "Enable terminal, active high", 3 C2- "Negative terminal of the flying capacitor C2", 4 GND (power) "Ground", 5 C1- "Negative terminal of the flying capacitor C1", 6 VIN (power) "Supply voltage input TPS60241: 2.7 V to 5.5 V, TPS60240/2/3: 1.8 V to 5.5 V. Bypass VIN to GND with a 1-uF external capacitor (CI).", 7 C1+ "Positive terminal of the flying capacitor C1", 8 C2+ "Positive terminal of the flying capacitor C2"

## TPS60243DGKT
designator U?
3 V, Boost Charge Pump, 25 mA, 1.8 to 5.5 V Input with 2-Cell Alkaline / Nixx Input, -40 to 85 degC, 8-pin SOP (DGK8), Green (RoHS & no Sb/Br); Manufacturer: Texas Instruments; PartNumber: TPS60243DGKT; 2-Cell Alkaline/Nixx Input: TRUE; Efficiency(Typ)(%): 90; Iout(Max)(A): 0.025; Iq(Typ)(mA): 0.25; Preset Vout(V): 3; Switching Frequency(Max)(kHz): 220; Vin(Max)(V): 5.5; Vin(Min)(V): 1.8; Vout(Max)(V): 3.075; Vout(Min)(V): 2.925; DatasheetVersion: SLVS372B; PackageVersion: 4073329/E; PackageReference: DGK8; PackageDescription: 8-Pin Thin Small Outline Package 3 x 3 mm Body ,0.65 mm Pitch; Supplier 1: Digi-Key; Supplier Part Number 1: 296-12512-2-ND; Supplier 2: Digi-Key; Supplier Part Number 2: 296-12512-1-ND; Supplier 3: Newark; Supplier Part Number 3: 77C0607; Supplier 4: Mouser; Supplier Part Number 4: 595-TPS60243DGKT; Eco-Plan: Green (RoHS & no Sb/Br); Topology: Boost; Mounting Technology: Surface Mount; Code_JEDEC: MO-187; ComponentLink1Description: Manufacturer URL; ComponentLink1URL: http://www.ti.com/; ComponentLink2Description: Datasheet; ComponentLink2URL: http://www.ti.com/general/docs/lit/getliterature.tsp?genericPartNumber=TPS60243&fileType=pdf; ComponentLink3Description: Package Specification; ComponentLink3URL: http://www.ti.com/litv/pdf/mpds028d
footprint TI-DGK8_N (SOP, 8-Leads, Body 3x3mm, Pitch 0.65mm, IPC Medium Density)
footprint TI-DGK8_L (SOP, 8-Leads, Body 3x3mm, Pitch 0.65mm, IPC High Density)
footprint TI-DGK8_M (SOP, 8-Leads, Body 3x3mm, Pitch 0.65mm, IPC Low Density)
pins: 1 VOUT (power) "Regulated power output. Bypass VOUT to GND with a 1-uF external filter capacitor (CO). TPS60241: regulated 5-V output, TPS60240: regulated 3.3-V output, TPS60242: regulated 2.7-V output, TPS60243: regulated 3-V output", 2 EN (in) "Enable terminal, active high", 3 C2- "Negative terminal of the flying capacitor C2", 4 GND (power) "Ground", 5 C1- "Negative terminal of the flying capacitor C1", 6 VIN (power) "Supply voltage input TPS60241: 2.7 V to 5.5 V, TPS60240/2/3: 1.8 V to 5.5 V. Bypass VIN to GND with a 1-uF external capacitor (CI).", 7 C1+ "Positive terminal of the flying capacitor C1", 8 C2+ "Positive terminal of the flying capacitor C2"

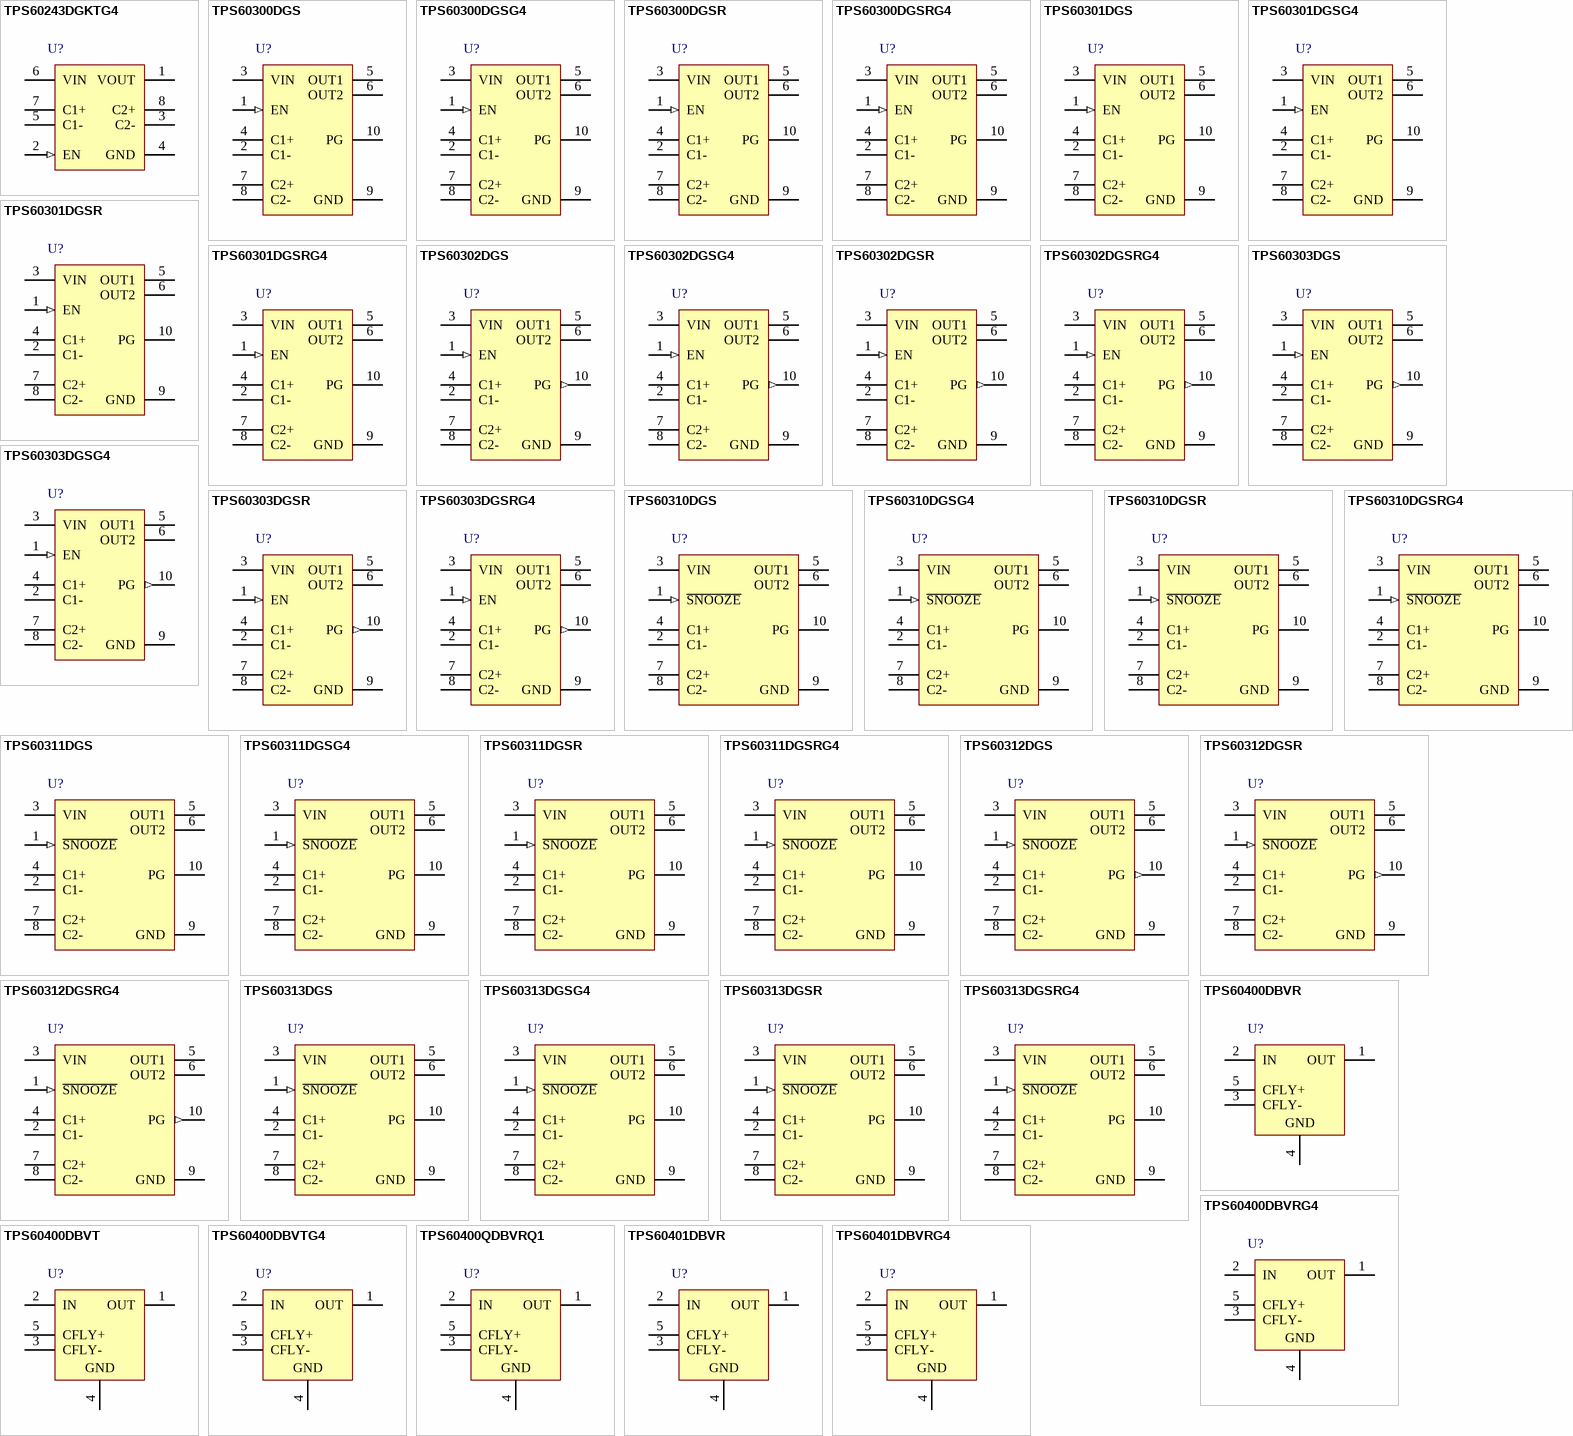
[diagram p6: symbols TPS60243DGKTG4 to TPS60401DBVRG4]

## TPS60243DGKTG4
designator U?
3 V, Boost Charge Pump, 25 mA, 1.8 to 5.5 V Input with 2-Cell Alkaline / Nixx Input, -40 to 85 degC, 8-pin SOP (DGK8), Green (RoHS & no Sb/Br); Manufacturer: Texas Instruments; PartNumber: TPS60243DGKTG4; 2-Cell Alkaline/Nixx Input: TRUE; Efficiency(Typ)(%): 90; Iout(Max)(A): 0.025; Iq(Typ)(mA): 0.25; Preset Vout(V): 3; Switching Frequency(Max)(kHz): 220; Vin(Max)(V): 5.5; Vin(Min)(V): 1.8; Vout(Max)(V): 3.075; Vout(Min)(V): 2.925; DatasheetVersion: SLVS372B; PackageVersion: 4073329/E; PackageReference: DGK8; PackageDescription: 8-Pin Thin Small Outline Package 3 x 3 mm Body ,0.65 mm Pitch; Supplier 1: Digi-Key; Supplier Part Number 1: TPS60243DGKTG4-ND; Supplier 2: Newark; Supplier Part Number 2: 10M0630; Supplier 3: Mouser; Supplier Part Number 3: 595-TPS60243DGKTG4; Eco-Plan: Green (RoHS & no Sb/Br); Topology: Boost; Mounting Technology: Surface Mount; Code_JEDEC: MO-187; ComponentLink1Description: Manufacturer URL; ComponentLink1URL: http://www.ti.com/; ComponentLink2Description: Datasheet; ComponentLink2URL: http://www.ti.com/general/docs/lit/getliterature.tsp?genericPartNumber=TPS60243&fileType=pdf; ComponentLink3Description: Package Specification; ComponentLink3URL: http://www.ti.com/litv/pdf/mpds028d
footprint TI-DGK8_N (SOP, 8-Leads, Body 3x3mm, Pitch 0.65mm, IPC Medium Density)
footprint TI-DGK8_L (SOP, 8-Leads, Body 3x3mm, Pitch 0.65mm, IPC High Density)
footprint TI-DGK8_M (SOP, 8-Leads, Body 3x3mm, Pitch 0.65mm, IPC Low Density)
pins: 1 VOUT (power) "Regulated power output. Bypass VOUT to GND with a 1-uF external filter capacitor (CO). TPS60241: regulated 5-V output, TPS60240: regulated 3.3-V output, TPS60242: regulated 2.7-V output, TPS60243: regulated 3-V output", 2 EN (in) "Enable terminal, active high", 3 C2- "Negative terminal of the flying capacitor C2", 4 GND (power) "Ground", 5 C1- "Negative terminal of the flying capacitor C1", 6 VIN (power) "Supply voltage input TPS60241: 2.7 V to 5.5 V, TPS60240/2/3: 1.8 V to 5.5 V. Bypass VIN to GND with a 1-uF external capacitor (CI).", 7 C1+ "Positive terminal of the flying capacitor C1", 8 C2+ "Positive terminal of the flying capacitor C2"

## TPS60300DGS
designator U?
3.3 V, Boost Charge Pump, 20 mA, 0.9 to 1.8 V Input, -40 to 85 degC, 10-pin SOP (DGS10), Green (RoHS & no Sb/Br); Manufacturer: Texas Instruments; PartNumber: TPS60300DGS; Efficiency(Typ)(%): 85; Iout(Max)(A): 0.02; Iq(Typ)(mA): 0.035; Preset Vout(V): 3.3; Vin(Max)(V): 1.8; Vin(Min)(V): 0.9; Vout(Max)(V): 3.43; Vout(Min)(V): 3.17; DatasheetVersion: SLVS302A; PackageVersion: 4073225-6/I; PackageReference: DGS10; PackageDescription: 10-Pin Plastic Small Outline, Body 3.00 x 3.00 mm, Pitch 0.50 mm; Supplier 1: Digi-Key; Supplier Part Number 1: TPS60300DGS-ND; Supplier 2: Newark; Supplier Part Number 2: 77C0608; Supplier 3: Mouser; Supplier Part Number 3: 595-TPS60300DGS; Eco-Plan: Green (RoHS & no Sb/Br); Topology: Boost; Mounting Technology: Surface Mount; Code_JEDEC: MO-153; ComponentLink1Description: Manufacturer URL; ComponentLink1URL: http://www.ti.com/; ComponentLink2Description: Datasheet; ComponentLink2URL: http://www.ti.com/general/docs/lit/getliterature.tsp?genericPartNumber=TPS60300&fileType=pdf; ComponentLink3Description: Package Specification; ComponentLink3URL: http://www.ti.com/litv/pdf/mpds373
footprint TI-DGS10_N (SOP, 10-Leads, Body 3x3mm, Pitch 0.5mm, IPC Medium Density)
footprint TI-DGS10_L (SOP, 10-Leads, Body 3x3mm, Pitch 0.5mm, IPC High Density)
footprint TI-DGS10_M (SOP, 10-Leads, Body 3x3mm, Pitch 0.5mm, IPC Low Density)
pins: 1 EN (in) "Device-enable input       - EN = Low disables the device. Output and input are isolated in shutdown mode.   - EN = High enables the device.", 2 C1- "Negative terminal of the flying capacitor C1F", 3 VIN (power) "Supply input. Bypass VIN to GND with a >=1-µF capacitor", 4 C1+ "Positive terminal of the flying capacitor C1F", 5 OUT1 (power) "2 x VIN power output. Bypass OUT1 to GND with the output filter capacitor C(OUT1)", 6 OUT2 (power) "Regulated 3.3-V power output (TPS60300, TPS60302) or 3-V power output (TPS60301, TPS60303), respectively Bypass OUT2 to GND with the output filter capacitor C(OUT2)", 7 C2+ "Positive terminal of the flying capacitor C2F", 8 C2- "Negative terminal of the flying capacitor C2F", 9 GND (power) "GROUND", 10 PG (oc) "Power good detector output. As soon as the voltage on OUT2 reaches about 98% of its nominal value this pin goes high.Open drain output on TPS60300 and TPS60301. A pullup resistor should be connected between PG and OUT1 or (See Datasheet)"